# Altium schematic symbol library LTC2875.SchLib: 1 symbol
Pins are listed as number, name and electrical type; pins without a type are passive.

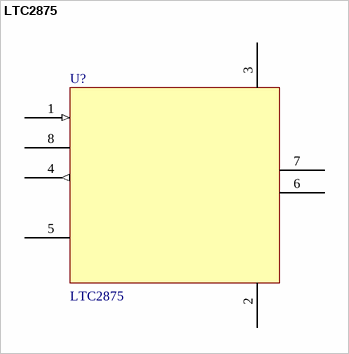
[diagram p0: symbol LTC2875]

## LTC2875
designator U?
pins: 1 (in), 2, 3  , 4 (out), 5, 6, 7, 8